# EAGLE library part 292227-5 (library te)
1.5mm AMP Mini CT Connectors
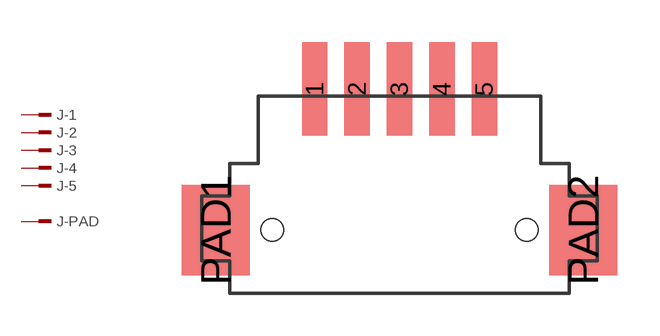
[diagram p1: symbol with the pads of 292227-5; footprint 292227-5]

Designator prefix J; gates -1=MPIN -2=MPIN -3=MPIN -4=MPIN -5=MPIN -PAD=MPIN

## 292227-5 (DISTRIBUTOR: Digikey; OC_DIGIKEY: A98698CT-ND; ORDER_CODE: A98698CT-ND)  [292227-5]
1  -1:1  pas
2  -2:1  pas
3  -3:1  pas
4  -4:1  pas
5  -5:1  pas
PAD1  -PAD:1  pas
PAD2  -PAD:1  pas

## Footprint 292227-5 (pad centres in mm)
smd 0.9 x 3.3: 1 -3,5; 2 -1.5,5; 3 0,5; 4 1.5,5; 5 3,5
smd 2.4 x 3.2: PAD1 -6.5,0; PAD2 6.5,0
hole 0.8 at 4.5,0
hole 0.8 at -4.5,0